# EAGLE library part NE8 (library con-neutrik_ag)
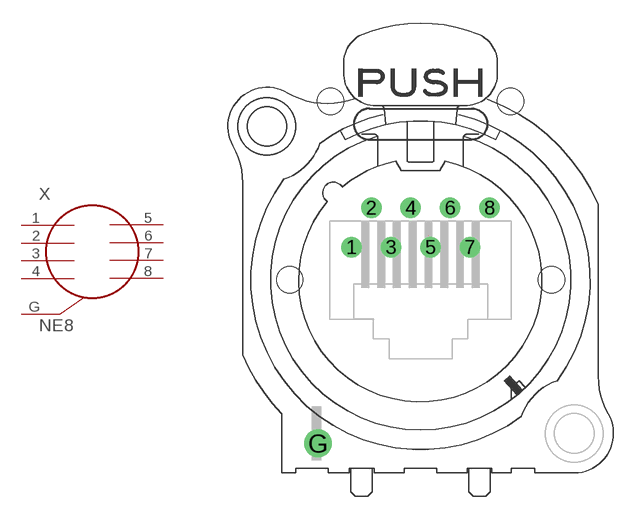
[diagram p1: symbol with the pads of NE8FAV; footprint NE8FAV]

Designator prefix X

## NE8FAV (MF: NEUTRIK; MPN: NE8FAV; OC_FARNELL: unknown)  [NE8FAV]
1  1  pas
2  2  pas
3  3  pas
4  4  pas
5  5  pas
6  6  pas
7  7  pas
8  8  pas
G  G  pas

## Footprint NE8FAV (pad centres in mm)
Neutrik Audio Connector Source: www.neutrik.com/... 210_291701.pdf
drill 0.813: 1 -4.445,2.108; 2 -3.175,4.648; 3 -1.905,2.108; 4 -0.635,4.648; 5 0.635,2.108; 6 1.905,4.648; 7 3.175,2.108; 8 4.445,4.648
drill 1.194: G -6.604,-10.541
hole 1.7 at -8.425,0
hole 1.7 at 8.425,0
hole 1.7 at 5.8,11.5
hole 1.7 at -5.8,11.5